# EAGLE library part SF1186B (library murata)
SAW RF / IF FILTER 1575.42 MHZ
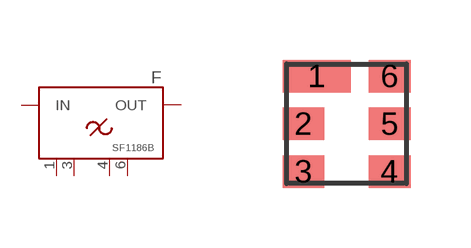
[diagram p1: symbol with the pads of SMD6-3X3; footprint SMD6-3X3]

Designator prefix F

## SF1186B (DIGIKEY: 583-1085-1-ND)  [SMD6-3X3]
1  P$3
2  IN
3  P$4
4  P$5
5  OUT
6  P$6

## Footprint SMD6-3X3 (pad centres in mm)
smd 1.702 x 0.813: 1 -0.749,1.194
smd 1.041 x 0.813: 2 -1.079,0; 3 -1.079,-1.194; 4 1.079,-1.194; 5 1.079,0; 6 1.079,1.194